# Altium footprint library CSX750F.PcbLib: 1 footprints
Each footprint in its own frame and in the unit in brackets; x right, y up, seen from the top. Pads: shape width x height; smd on the part's side, far side on the other; paste and mask are expansions set on the pad; w line width, h text height; cw(c..) or ccw(c..) is an arc to the next point about the centre after c.
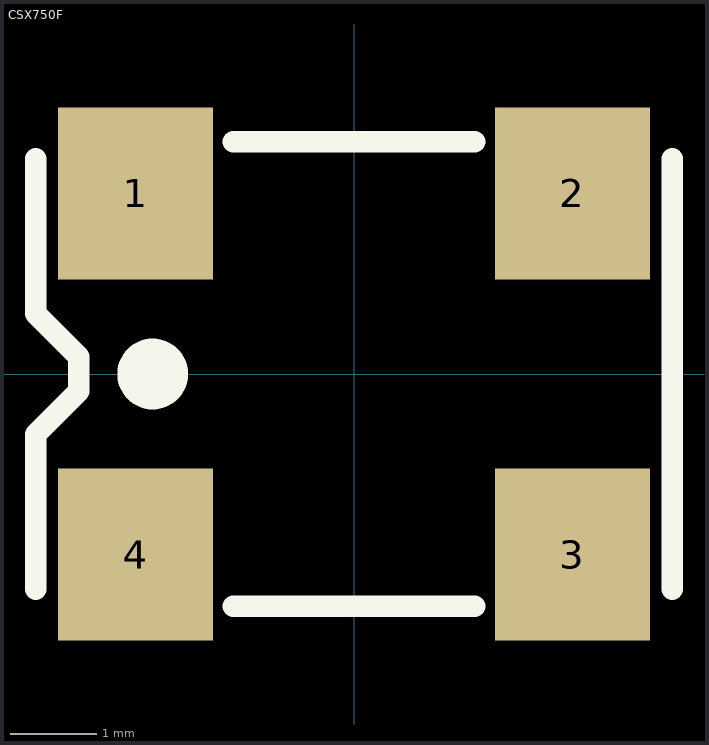
[diagram p0: the footprint, top view; thin cyan lines are the x and y axes]

## CSX750F [mm] "Citizen CSX750F"
height 1.6
pads (4):
  rect 1.8x2 smd: 1(-2.54,2.1) 2(2.54,2.1) 3(2.54,-2.1) 4(-2.54,-2.1)
Top Overlay:
  circle w0.54: c-2.341,0 r0.141
  lines w0.254: -3.7,-2.5 -3.7,-0.7 -3.2,-0.2 -3.2,0.2 -3.7,0.7 -3.7,2.5 ; -1.4,-2.7 1.4,-2.7 ; -1.4,2.7 1.4,2.7 ; 3.7,-2.5 3.7,2.5
3D body: height 1.2, standoff 0, extent -3.576,-2.601 3.576,2.601
3D body: height 1.6, standoff 1, extent -3.301,-2.301 3.301,2.301